# Altium footprint library EP3C10E144.PcbLib: 1 footprints
Each footprint in its own frame and in the unit in brackets; x right, y up, seen from the top. Pads: shape width x height; smd on the part's side, far side on the other; paste and mask are expansions set on the pad; w line width, h text height; cw(c..) or ccw(c..) is an arc to the next point about the centre after c.
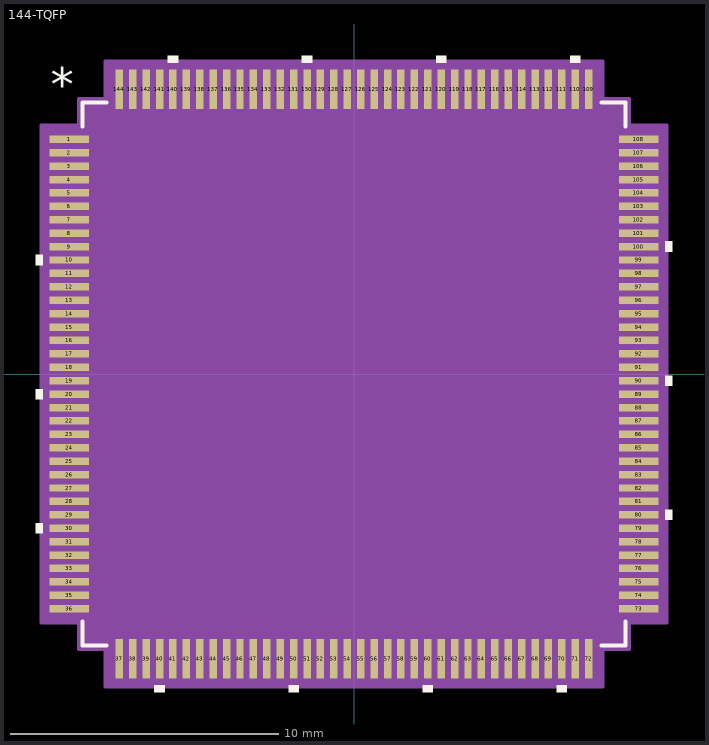
[diagram p0: the footprint, top view; thin cyan lines are the x and y axes]

## 144-TQFP [mil]
pads (144):
  rect 58x11 smd: 1(-418,344.49) 2(-418,324.8) 3(-418,305.12) 4(-418,285.43) 5(-418,265.75) 6(-418,246.06) 7(-418,226.38) 8(-418,206.69) 9(-418,187.01) 10(-418,167.32) 11(-418,147.64) 12(-418,127.95) 13(-418,108.27) 14(-418,88.58) 15(-418,68.9) 16(-418,49.21) 17(-418,29.53) 18(-418,9.84) 19(-418,-9.84) 20(-418,-29.53) 21(-418,-49.21) 22(-418,-68.9) 23(-418,-88.58) 24(-418,-108.27) 25(-418,-127.95) 26(-418,-147.64) 27(-418,-167.32) 28(-418,-187.01) 29(-418,-206.69) 30(-418,-226.38) 31(-418,-246.06) 32(-418,-265.75) 33(-418,-285.43) 34(-418,-305.12) 35(-418,-324.8) 36(-418,-344.49) 73(418,-344.49) 74(418,-324.8) 75(418,-305.12) 76(418,-285.43) 77(418,-265.75) 78(418,-246.06) 79(418,-226.38) 80(418,-206.69) 81(418,-187.01) 82(418,-167.32) 83(418,-147.64) 84(418,-127.95) 85(418,-108.27) 86(418,-88.58) 87(418,-68.9) 88(418,-49.21) 89(418,-29.53) 90(418,-9.84) 91(418,9.84) 92(418,29.53) 93(418,49.21) 94(418,68.9) 95(418,88.58) 96(418,108.27) 97(418,127.95) 98(418,147.64) 99(418,167.32) 100(418,187.01) 101(418,206.69) 102(418,226.38) 103(418,246.06) 104(418,265.75) 105(418,285.43) 106(418,305.12) 107(418,324.8) 108(418,344.49)
  rect 11x58 smd: 37(-344.49,-418) 38(-324.8,-418) 39(-305.12,-418) 40(-285.43,-418) 41(-265.75,-418) 42(-246.06,-418) 43(-226.38,-418) 44(-206.69,-418) 45(-187.01,-418) 46(-167.32,-418) 47(-147.64,-418) 48(-127.95,-418) 49(-108.27,-418) 50(-88.58,-418) 51(-68.9,-418) 52(-49.21,-418) 53(-29.53,-418) 54(-9.84,-418) 55(9.84,-418) 56(29.53,-418) 57(49.21,-418) 58(68.9,-418) 59(88.58,-418) 60(108.27,-418) 61(127.95,-418) 62(147.64,-418) 63(167.32,-418) 64(187.01,-418) 65(206.69,-418) 66(226.38,-418) 67(246.06,-418) 68(265.75,-418) 69(285.43,-418) 70(305.12,-418) 71(324.8,-418) 72(344.49,-418) 109(344.49,418) 110(324.8,418) 111(305.12,418) 112(285.43,418) 113(265.75,418) 114(246.06,418) 115(226.38,418) 116(206.69,418) 117(187.01,418) 118(167.32,418) 119(147.64,418) 120(127.95,418) 121(108.27,418) 122(88.58,418) 123(68.9,418) 124(49.21,418) 125(29.53,418) 126(9.84,418) 127(-9.84,418) 128(-29.53,418) 129(-49.21,418) 130(-68.9,418) 131(-88.58,418) 132(-108.27,418) 133(-127.95,418) 134(-147.64,418) 135(-167.32,418) 136(-187.01,418) 137(-206.69,418) 138(-226.38,418) 139(-246.06,418) 140(-265.75,418) 141(-285.43,418) 142(-305.12,418) 143(-324.8,418) 144(-344.49,418)
Top Overlay:
  region: -258.25,457 -273.25,457 -273.25,467 -258.25,467
  region: -61.4,457 -76.4,457 -76.4,467 -61.4,467
  region: 135.45,457 120.45,457 120.45,467 135.45,467
  region: 332.3,457 317.3,457 317.3,467 332.3,467
  region: 457,194.51 467,194.51 467,179.51 457,179.51
  region: 457,-2.34 467,-2.34 467,-17.34 457,-17.34
  region: 457,-199.19 467,-199.19 467,-214.19 457,-214.19
  region: 312.62,-457 297.62,-457 297.62,-467 312.62,-467
  region: 115.77,-457 100.77,-457 100.77,-467 115.77,-467
  region: -81.08,-457 -96.08,-457 -96.08,-467 -81.08,-467
  region: -277.93,-457 -292.93,-457 -292.93,-467 -277.93,-467
  region: -457,-218.88 -467,-218.88 -467,-233.88 -457,-233.88
  region: -457,-22.03 -467,-22.03 -467,-37.03 -457,-37.03
  region: -457,174.82 -467,174.82 -467,159.82 -457,159.82
  lines w6: -398.5,-363.09 -398.5,-398.5 -363.09,-398.5 ; -398.5,363.09 -398.5,398.5 -363.09,398.5 ; 363.09,-398.5 398.5,-398.5 398.5,-363.09 ; 363.09,398.5 398.5,398.5 398.5,363.09
  text "*" at -445,400 h50
Mechanical 13:
  text "*" at -445,400 h50
Mechanical 15:
  region: -364.49,-403.5 -403.5,-403.5 -403.5,-364.49 -458.5,-364.49 -458.5,364.49 -403.5,364.49 -403.5,403.5 -364.49,403.5 -364.49,458.5 364.49,458.5 364.49,403.5 403.5,403.5 403.5,364.49 458.5,364.49 458.5,-364.49 403.5,-364.49 403.5,-403.5 364.49,-403.5 364.49,-458.5 -364.49,-458.5
  lines w6: -458.5,-364.49 -458.5,364.49 -403.5,364.49 -403.5,403.5 -364.49,403.5 -364.49,458.5 364.49,458.5 364.49,403.5 403.5,403.5 403.5,364.49 458.5,364.49 458.5,-364.49 403.5,-364.49 403.5,-403.5 364.49,-403.5 364.49,-458.5 -364.49,-458.5 -364.49,-403.5 -403.5,-403.5 -403.5,-364.49 -458.5,-364.49